# Altium schematic symbol library ic_pmic.SchLib: 4 symbols
Pins are listed as number, name and electrical type; pins without a type are passive.

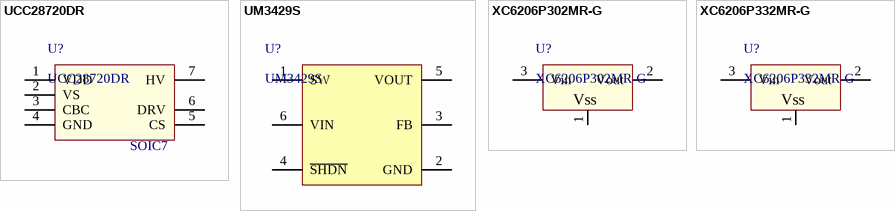
[diagram p0: symbols UCC28720DR to XC6206P332MR-G]

## UCC28720DR
designator U?  PACKAGE: SOIC7
Converter Offline Flyback Topology 650Hz ~ 80kHz 7-SOIC; BRAND: TI; PART NO: UCC28720DR; STOCK CODE: 296-41058-1-ND; SUPPLIER: Digi-Key; TYPE: SMD
footprint SOIC-7 (SOIC, 8-Leads, Body 5.0x4.0mm (max), Pitch 1.27mm, IPC Medium Density)
pins: 1 VDD "VDD is the bias supply input pin to the controller. A carefully-placed bypass capacitor to GND is required on this pin.", 2 VS "Voltage sense is an input used to provide voltage and timing feedback to the controller.", 3 CBC "Cable compensation is a programming pin for compensation of cable voltage drop. Cable compensation is programmed with a resistor to GND.", 4 GND "The ground pin is both the reference pin for the controller and the low-side return for the drive output.", 5 CS "Current sense input connects to a ground-referenced current-sense resistor in series with the power switch.", 6 DRV "Drive is an output used to drive the base of an external high voltage NPN transistor.", 7 HV "The high-voltage pin connects directly to the rectified bulk voltage and provides charge to the VDD capacitor for start-up of the power supply."

## UM3429S
designator U?
600mA, 1MHz, Synchronous Step-Up DC-DC Converter; BRAND: UNION; PACKAGE: SOT23-6; PART NO: UM3429S; TYPE: SMD
footprint SOT-23-6/UM3429S (SOT23, 6-Leads, Body 3.0x3.0mm (max), Pitch 0.95mm, IPC Medium Density)
pins: 1 SW "Switch Pin", 2 GND "Ground", 3 FB "Feedback Input Pin.", 4 ~{SHDN} "Logic Controlled Shutdown Input", 5 VOUT "Output Voltage Sense Input and Drain of the Internal", 6 VIN "Battery Input Voltage"

## XC6206P302MR-G
designator U?
LDO Voltage Regulators 1uA Low Quiescent 3 Terminal, Low ESR Cap. Compatible, Voltage Regulator; Manufacturer: Torex Semiconductor; Input Voltage MAX: 6 V; Number of Outputs: 1 Output; Output Current: 200 mA; Output Type: Fixed; Output Voltage: 3 V; Voltage Regulation Accuracy: 2 %; Dropout Voltage: 250 mV; Input Voltage MIN: 1.8 V; Line Regulation: 0.05 %/V; Load Regulation: 60 mV; Pd - Power Dissipation: 250 mW; Supplier 1: Mouser; Supplier Part Number 1: 865-XC6206P302MR-G; Manufacturer Part Number: XC6206P302MR-G; RoHS: RoHS Compliant; Category: LDO Voltage Regulators; Stock 1: 5316; Pricing 1: 1=0.670, 10=0.520, 100=0.394, 500=0.336, 1000=0.269, 3000=0.236, 9000=0.212, 24000=0.209, 45000=0.202 (USD); Package: SOT-23-3; Packaging: Cut Tape; Product: Voltage Regulators; Quiescent Current: 1 uA; Type: Positive Voltage Regulator; Brand: Torex Semiconductor; Mounting Style: SMD/SMT; Output Voltage Range: -; Maximum Operating Temperature: + 85 C; Minimum Operating Temperature: - 40 C; Operating Supply Current: 1 uA; Product Type: LDO Voltage Regulators; Standard Pack Qty: 3000; Subcategory: PMIC - Power Management ICs; RoHS - Mouser: Y; Minimum Order Quantity: 1; Reeling: True
footprint SOT-23 (SOT23, 3-Leads, Body 3.0x2.5mm (max), Pitch 0.95mm, IPC Medium Density)
pins: 1 VSS, 2 Vout, 3 Vin (power)
text: Vss

## XC6206P332MR-G
designator U?
LDO Voltage Regulators 1uA Low Quiescent 3 Terminal, Low ESR Cap. Compatible, Voltage Regulator; Manufacturer: Torex Semiconductor; Input Voltage MAX: 6 V; Number of Outputs: 1 Output; Output Current: 200 mA; Output Type: Fixed; Output Voltage: 3.3 V; Voltage Regulation Accuracy: 2 %; Dropout Voltage: 250 mV; Input Voltage MIN: 1.8 V; Line Regulation: 0.05 %/V; Load Regulation: 60 mV; Pd - Power Dissipation: 250 mW; Supplier 1: Mouser; Supplier Part Number 1: 865-XC6206P332MR-G; Manufacturer Part Number: XC6206P332MR-G; RoHS: RoHS Compliant; Category: LDO Voltage Regulators; Stock 1: 4719; Pricing 1: 1=0.670, 10=0.520, 100=0.394, 500=0.336, 1000=0.269, 3000=0.236, 9000=0.212, 24000=0.209, 45000=0.202 (USD); Package: SOT-23-3; Packaging: Cut Tape; Product: Voltage Regulators; Quiescent Current: 1 uA; Type: Positive Voltage Regulator; Brand: Torex Semiconductor; Mounting Style: SMD/SMT; Output Voltage Range: -; Maximum Operating Temperature: + 85 C; Minimum Operating Temperature: - 40 C; Operating Supply Current: 1 uA; Product Type: LDO Voltage Regulators; Standard Pack Qty: 3000; Subcategory: PMIC - Power Management ICs; RoHS - Mouser: Y; Minimum Order Quantity: 1; Reeling: True
footprint SOT-23
pins: 1 VSS, 2 Vout, 3 Vin (power)
text: Vss